# Altium integrated library XBee.IntLib: 3 symbols
Pins are listed as number, name and electrical type; pins without a type are passive.

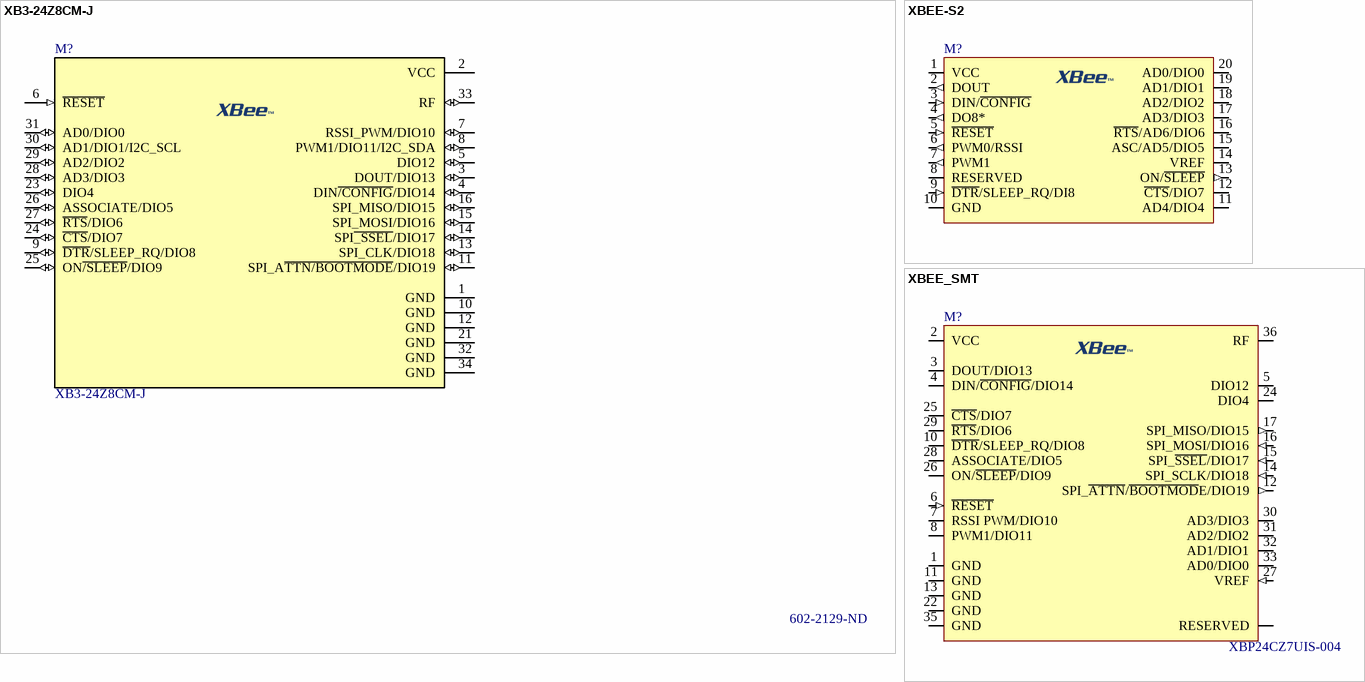
[diagram p0: symbols XB3-24Z8CM-J to XBEE_SMT]

## XB3-24Z8CM-J
designator M?  Supplier Part Number 1: 602-2129-ND
ZigBee Module 3.0 with Chip Antenna 2.4 GHz 250Kbps 34-Pin Micro Mount; Manufacturer: Digi International; Interface: I2C,SPI,UART; Frequency: 2.4GHz; Sensitivity: -103dBm; Memory Size: 128KB; Current - Receiving: 15mA; Current - Transmitting: 40mA; Supplier 1: Digi-Key; Manufacturer Part Number: XB3-24Z8CM-J; RoHS: Yes; Category: RF Receivers, Transceivers; Pricing 1: 1=18,80000 (USD); Mount: Surface Mount; Case/Package: SMD/SMT; Min Operating Temperature: -40°C; Max Operating Temperature: 85°C; Packaging: Tray; Data Rate: 250Kbps; RoHS Compliant: Yes; ComponentLink1URL: https://www.digi.com/pdf/the-advantages-of-digi-xbee3-cellular-wp.pdf?src-supplier=Digi-Key; ComponentLink1Description: https://www.digi.com/pdf/the-advantages-of-digi-xbee3-cellular-wp.pdf?src-supplier=Digi-Key
footprint XCVR_XB3-24Z8CM-J
pins: 1 GND (power), 2 VCC (power), 3 DOUT/DIO13 (io), 4 DIN~{/CONFIG}/DIO14 (io), 5 DIO12 (io), 6 ~{RESET} (in), 7 RSSI_PWM/DIO10 (io), 8 PWM1/DIO11/I2C_SDA (io), 9 ~{DTR}/SLEEP_RQ/DIO8 (io), 10 GND (power), 11 SPI_A~{TTN/BOOTMODE}/DIO19 (io), 12 GND (power), 13 SPI_CLK/DIO18 (io), 14 SPI~{_SSEL}/DIO17 (io), 15 SPI_MOSI/DIO16 (io), 16 SPI_MISO/DIO15 (io), 21 GND (power), 23 DIO4 (io), 24 ~{CTS}/DIO7 (io), 25 ON~{/SLEEP}/DIO9 (io), 26 ASSOCIATE/DIO5 (io), 27 ~{RTS}/DIO6 (io), 28 AD3/DIO3 (io), 29 AD2/DIO2 (io), 30 AD1/DIO1/I2C_SCL (io), 31 AD0/DIO0 (io), 32 GND (power), 33 RF (io), 34 GND (power)

## XBEE-S2
designator M?
XBee Module RF; Manuf1: Digi; Populated: Yes; Manuf1Partnumber: *; ROHS: Yes; ClassName: *; Code_JEDEC: *; PackageReference: *; HelpURL: *; LifeCycle: Checked
footprint XBEE
footprint XBEE-BASE-PRO
footprint XBEE-BASE-PRO-MODULE
footprint XBEE-BASE-PRO-SMA
footprint XBEE-BASE2
footprint XBEE-BASE2-MODULE
footprint XBEE-PRO
footprint XBEE-PRO-SMD
footprint XBEE_PRO-PTH-SMA
footprint XBEE_PRO_ANT
footprint XBEE-BASE-PRO-SMA-MODULE - BASE-DER
footprint XBEE-BASE-PRO-SMA-MODULE-BASE-IZQ
footprint XBEE-PRO - BASE
pins: 1 VCC (power), 2 DOUT (out), 3 DIN/~{CONFIG} (in), 4 DO8* (out), 5 ~{RESET} (in), 6 PWM0/RSSI (out), 7 PWM1 (out), 8 RESERVED, 9 ~{DTR}/SLEEP_RQ/DI8 (in), 10 GND (power), 11 AD4/DIO4 (io), 12 ~{CTS}/DIO7 (io), 13 ON/~{SLEEP} (out), 14 VREF, 15 ASC/AD5/DIO5 (io), 16 ~{RTS}/AD6/DIO6 (io), 17 AD3/DIO3 (io), 18 AD2/DIO2 (io), 19 AD1/DIO1 (io), 20 AD0/DIO0 (io)

## XBEE_SMT
designator M?, comment XBP24CZ7UIS-004
XBee Module RF SMT; Populated: Yes; HelpURL: http://www.digi.com/pdf/ds_xbeezbsmt.pdf; Manuf1: http://www.digikey.com/product-detail/en/XBP24CZ7UIS-004/602-1241-ND/3026313; Manuf1Partnumber: XBP24CZ7UIS-004; Value: XBP24CZ7UIS-004; ROHS: Yes; ClassName: *; Code_JEDEC: *
footprint XBEE_SMT
pins: 1 GND, 2 VCC (power), 3 DOUT/DIO13, 4 DIN/~{CONFIG}/DIO14, 5 DIO12 (io), 6 ~{RESET} (in), 7 RSSI PWM/DIO10 (io), 8 PWM1/DIO11 (io), 10 ~{DTR}/SLEEP_RQ/DIO8 (io), 11 GND, 12 SPI_~{ATTN}/~{BOOTMOD}E/DIO19 (out), 13 GND, 14 SPI_SCLK/DIO18 (in), 15 SPI_~{SSEL}/DIO17 (in), 16 SPI_MOSI/DIO16 (in), 17 SPI_MISO/DIO15 (out), 22 GND, 24 DIO4 (io), 25 ~{CTS}/DIO7 (io), 26 ON/~{SLEEP}/DIO9 (io), 27 VREF (in), 28 ASSOCIATE/DIO5 (io), 29 ~{RTS}/DIO6 (io), 30 AD3/DIO3 (io), 31 AD2/DIO2 (io), 32 AD1/DIO1 (io), 33 AD0/DIO0 (io), 35 GND, 36 RF (io), 37, 34, 23, 21, 20, 19, 18, 9 RESERVED